# Altium footprint library RayPCB20210502.PcbLib: 218 footprints (part 13 of 14)
Each footprint in its own frame and in the unit in brackets; x right, y up, seen from the top. Pads: shape width x height; smd on the part's side, far side on the other; paste and mask are expansions set on the pad; w line width, h text height; cw(c..) or ccw(c..) is an arc to the next point about the centre after c.
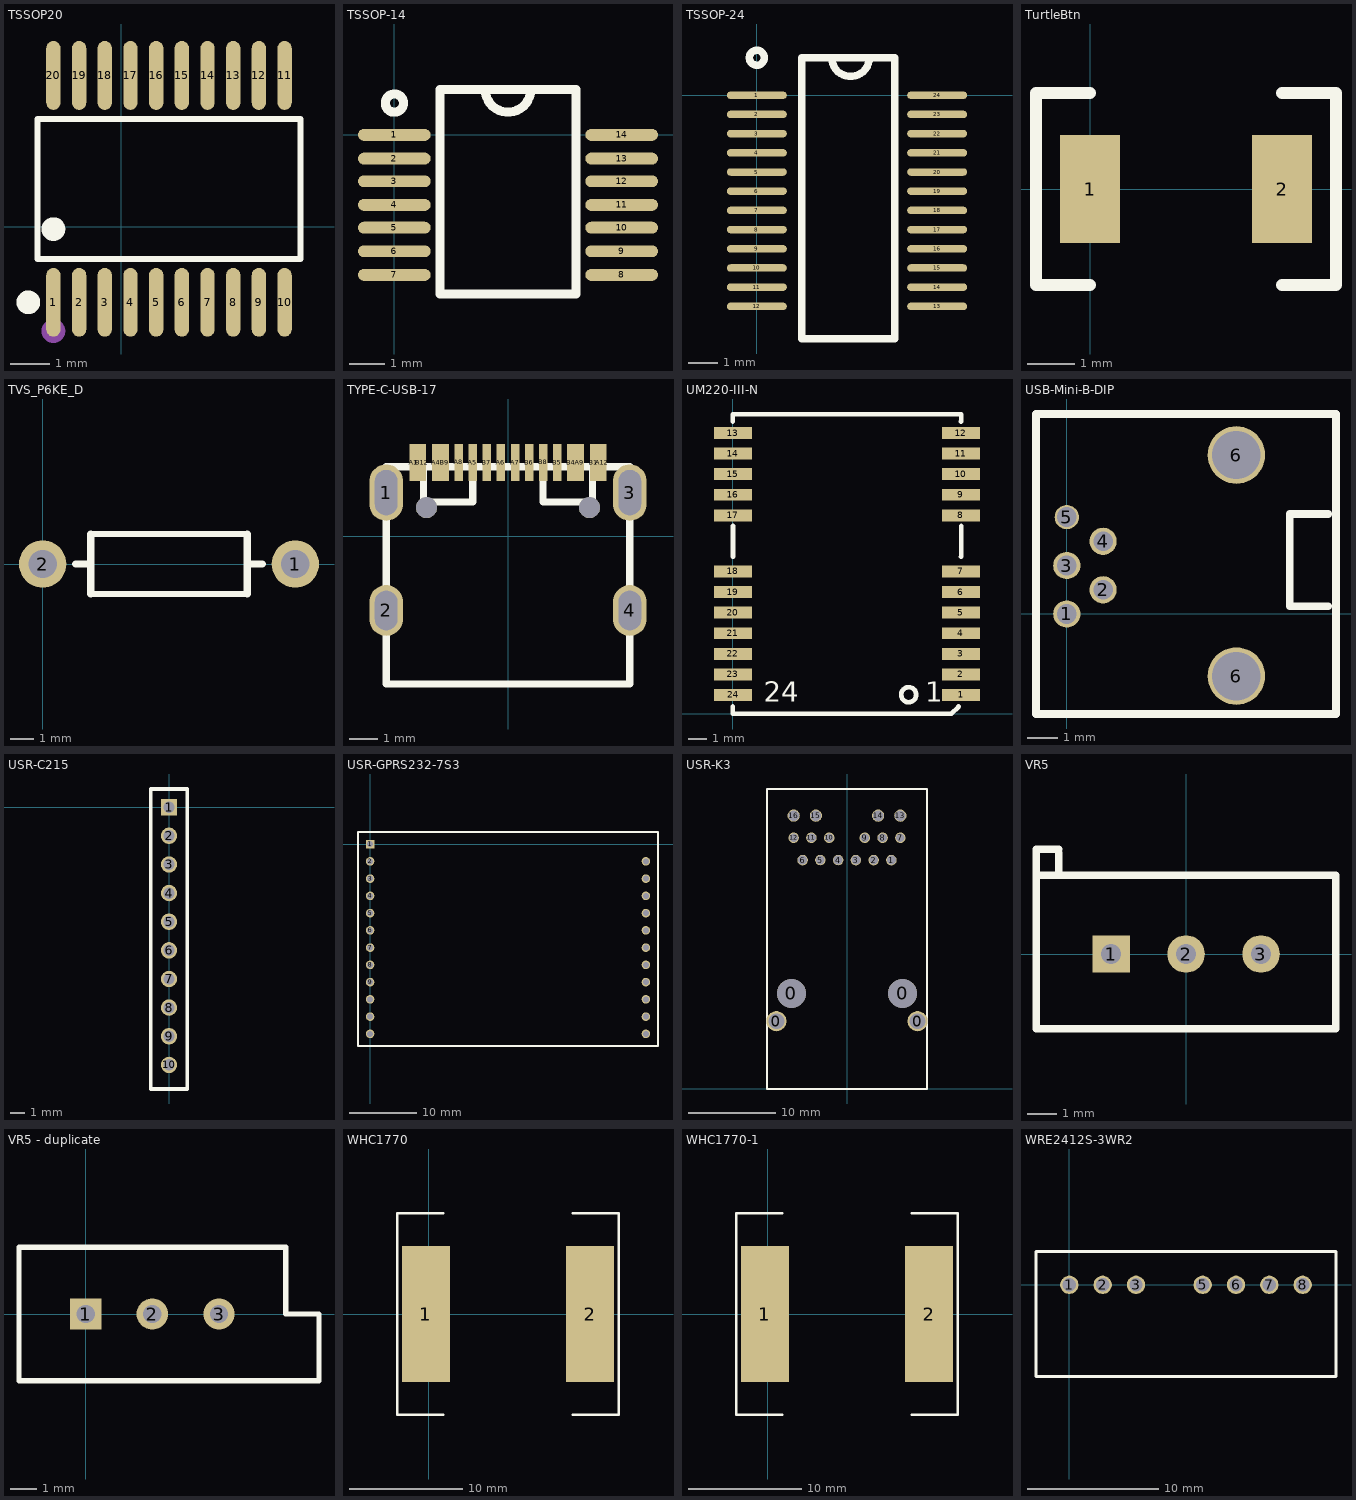
[diagram p12: the footprints below, top view; thin cyan lines are the x and y axes]

## TSSOP20 [mil]
pads (20):
  oval 14.33x68.58 smd: 1(-67.36,-75.39) 2(-41.77,-75.39) 3(-16.18,-75.39) 4(9.41,-75.39) 5(35,-75.39) 6(60.59,-75.39) 7(86.18,-75.39) 8(111.77,-75.39) 9(137.36,-75.39) 10(162.95,-75.39) 11(162.95,150.67) 12(137.36,150.67) 13(111.77,150.67) 14(86.18,150.67) 15(60.59,150.67) 16(35,150.67) 17(9.41,150.67) 18(-16.18,150.67) 19(-41.77,150.67) 20(-67.36,150.67)
Top Overlay:
  circle w11.81: c-67.37,-2.48 r5.91
  circle w11.81: c-92.34,-75.39 r5.91
  lines w6: -83.16,-32.1 -83.16,107.38 178.75,107.38 178.75,-32.1 -83.16,-32.1
Mechanical 15:
  circle w11.81: c-67.37,-104.09 r5.91

## TSSOP-14 [mil]
pads (14):
  oval 80x13 smd: 1(0,0) 2(0,-26) 3(0,-51) 4(0,-77) 5(0,-102) 6(0,-128) 7(0,-154) 8(250,-154) 9(250,-128) 10(250,-102) 11(250,-77) 12(250,-51) 13(250,-26) 14(250,0)
Top Overlay:
  circle w10: c0,35 r10
  lines w10: 100,50 ccw(c125,50) 150,50 ; 50,-175 200,-175 200,50 50,50 50,-175

## TSSOP-24 [mil] "AD7190 RU-24"
pads (24):
  oval 80x10 smd: 1(0,0) 2(0,-25.59) 3(0,-51.18) 4(0,-76.77) 5(0,-102.36) 6(0,-127.95) 7(0,-153.54) 8(0,-179.13) 9(0,-204.72) 10(0,-230.31) 11(0,-255.91) 12(0,-281.5) 13(240.55,-281.5) 14(240.55,-255.91) 15(240.55,-230.31) 16(240.55,-204.72) 17(240.55,-179.13) 18(240.55,-153.54) 19(240.55,-127.95) 20(240.55,-102.36) 21(240.55,-76.77) 22(240.55,-51.18) 23(240.55,-25.59) 24(240.55,0)
Top Overlay:
  circle w10: c0,50 r10
  lines w10: 100,50 ccw(c125,50) 150,50 ; 60,-325 184.25,-325 184.25,50 60,50 60,-325

## TurtleBtn [mil]
pads (2):
  rect 50x90 smd: 1(0,0) 2(160,0)
Top Overlay:
  lines w10: 0,-80 -45,-80 -45,80 0,80 ; 160,-80 205,-80 205,80 160,80

## TVS_P6KE_D [mm]
pads (2):
  round 2 hole 1.2: 1(10.668,0) 2(0,0)
Top Overlay:
  lines w0.254: 2.032,-1.27 8.636,-1.27 ; 2.032,1.27 8.636,1.27
  lines w0.305: 1.397,0 2.032,0 ; 2.032,-1.27 2.032,0 ; 2.032,1.27 2.032,0 ; 8.636,-1.27 8.636,0 ; 8.636,1.27 8.636,0 ; 9.271,0 8.636,0

## TYPE-C-USB-17 [mm]
pads (22):
  oval 1.2x2 hole 0.8 slot 1.6 at 90 deg: 1(-4.32,1.556) 3(4.32,1.556)
  oval 1.2x1.8 hole 0.8 slot 1.4 at 90 deg: 2(-4.32,-2.624) 4(4.32,-2.624)
  rect 0.3x1.3 smd: A1(-3.35,2.623) A4(-2.55,2.623) A5(-1.25,2.623) A6(-0.25,2.623) A7(0.25,2.623) A8(-1.75,2.624) A9(2.55,2.623) A12(3.35,2.623) B1(3.05,2.623) B4(2.25,2.623) B5(1.75,2.623) B6(0.75,2.623) B7(-0.75,2.623) B8(1.25,2.624) B9(-2.25,2.623) B12(-3.05,2.623)
  round 0.75 hole 0.75 unplated: ""(-2.89,1.026) ""(2.89,1.026)
Top Overlay:
  lines w0.254: -3,2.471 -3,1.221 -1.25,1.221 -1.25,2.471 ; 1.247,2.473 1.247,1.223 2.997,1.223 2.997,2.473 ; -4.32,-5.227 -4.32,2.471 4.32,2.471 4.32,-5.227 -4.32,-5.227

## UM220-III-N [mil]
pads (24):
  rect 80x25 smd: 1(480.31,39.37) 2(480,82.68) 3(480,125.98) 4(480,169.29) 5(480,212.6) 6(480,255.91) 7(480,299.21) 8(480,417.32) 9(480,460.63) 10(480,503.94) 11(480,547.24) 12(480,590.55) 13(0,590.55) 14(0,547.24) 15(0,503.94) 16(0,460.63) 17(0,417.32) 18(0,299.21) 19(0,255.91) 20(0,212.6) 21(0,169.29) 22(0,125.98) 23(0,82.68) 24(0.32,39.37)
Top Overlay:
  circle w10: c370,40 r15.81
  lines w10: 0,15 0,0 460,0 475,15 ; 0,330 0.32,330.31 0.32,395 ; 0,615 0,629.92 480.31,629.92 480.31,615.32 480,615 ; 480,330 480.31,330.31 480.31,395
  text "1" at 405,25 h42
  text "24" at 65,25 h42

## USB-Mini-B-DIP [mm]
pads (7):
  round 0.9 hole 0.65: 1(0,0) 2(1.2,0.8) 3(0,1.6) 4(1.2,2.4)
  round 0.8 hole 0.65: 5(0,3.2)
  round 1.9 hole 1.6: 6(5.6,-2.05) 6(5.6,5.25)
Top Overlay:
  lines w0.254: 8.636,0.254 7.366,0.254 7.366,3.302 8.636,3.302 ; -1.016,-3.302 -1.016,6.604 8.89,6.604 8.89,-3.302 -1.016,-3.302

## USR-C215 [mil]
pads (10):
  rect 45x45 hole 31.5: 1(0,0)
  round 45 hole 31.5: 2(0,-78.74) 3(0,-157.48) 4(0,-236.22) 5(0,-314.96) 6(0,-393.7) 7(0,-472.44) 8(0,-551.18) 9(0,-629.92) 10(0,-708.66)
Top Overlay:
  lines w10: -50,-775 50,-775 50,50 -50,50 -50,-775

## USR-GPRS232-7S3 [mil]
pads (23):
  rect 50x50 hole 35: 1(0,0)
  round 50 hole 35: 2(0,-100) 3(0,-200) 4(0,-300) 5(0,-400) 6(0,-500) 7(0,-600) 8(0,-700) 9(0,-800) 10(0,-900) 11(0,-1000) 12(0,-1100) 13(1600,-1100) 14(1600,-1000) 15(1600,-900) 16(1600,-800) 17(1600,-700) 18(1600,-600) 19(1600,-500) 20(1600,-400) 21(1600,-300) 22(1600,-200) 23(1600,-100)
Top Overlay:
  lines w10: -70,-1170 1670,-1170 1670,70 -70,70 -70,-1120 -70,-1170

## USR-K3 [mm]
pads (20):
  round 2.3 hole 1.8: 0(-8.065,7.75) 0(8.065,7.75)
  round 3.3 hole 3.3: 0(-6.35,10.93) 0(6.35,10.93)
  round 1.2 hole 1: 1(5.075,26.162) 2(3.045,26.162) 3(1.015,26.162) 4(-1.015,26.17) 5(-3.045,26.17) 6(-5.075,26.162) 7(6.096,28.71) 8(4.065,28.71) 9(2.035,28.71) 10(-2.035,28.71) 11(-4.065,28.71) 12(-6.096,28.71)
  round 1.4 hole 1.2: 13(6.096,31.242) 14(3.555,31.242) 15(-3.555,31.242) 16(-6.096,31.25)
Top Overlay:
  lines w0.254: -9.144,0 -7.747,0 9.144,0 9.144,34.29 -9.144,34.29 -9.144,0

## VR5 [mil]
pads (3):
  rect 50x50 hole 27: 1(-100,0)
  round 50 hole 27: 2(0,0) 3(100,0)
Top Overlay:
  lines w10: -170,105 -170,135 ; -170,140 -200,140 -200,105 ; -200,105 -200,-100 200,-100 200,105 -200,105

## VR5 - duplicate [mm] "RES-ADJ"
pads (3):
  rect 1.2x1.2 hole 0.7: 1(0,0)
  round 1.2 hole 0.7: 2(2.54,0) 3(5.08,0)
Top Overlay:
  lines w0.2: -2.54,-2.54 8.89,-2.54 8.89,0 7.62,0 7.62,2.54 -2.54,2.54 -2.54,-2.54

## WHC1770 [mm]
pads (2):
  rect 4.2x12 smd: 1(-0.254,0) 2(14.224,0)
Top Overlay:
  lines w0.254: 1.27,-8.89 -2.794,-8.89 -2.794,8.89 1.27,8.89 ; 12.7,-8.89 16.764,-8.89 16.764,8.89 12.7,8.89

## WHC1770-1 [mm]
pads (2):
  rect 4.2x12 smd: 1(-0.254,0) 2(14.224,0)
Top Overlay:
  lines w0.254: 1.27,-8.89 -2.794,-8.89 -2.794,8.89 1.27,8.89 ; 12.7,-8.89 16.764,-8.89 16.764,8.89 12.7,8.89

## WRE2412S-3WR2 [mil]
pads (7):
  round 55 hole 40: 1(0,0) 2(100,0) 3(200,0) 5(400,0) 6(500,0) 7(600,0) 8(700,0)
Top Overlay:
  lines w10: -100,-275 800,-275 800,100 -100,100 -100,-275